# Altium integrated library custom.IntLib: 10 symbols
Pins are listed as number, name and electrical type; pins without a type are passive.

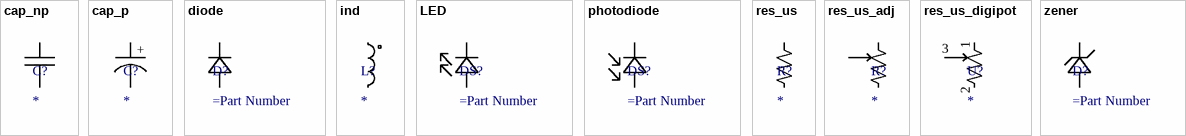
[diagram p0: symbols cap_np to zener]

## cap_np
designator C?
Capacitance: *; Voltage: *; Tolerance: *; Manufacturer Part Number: *; Manufacturer: *
pins: 1, 2

## cap_p
designator C?
Capacitance: *; Voltage: *; Tolerance: *; Manufacturer Part Number: *; Manufacturer: *
pins: 1, 2
text: +

## diode
designator D?
Voltage: *; Manufacturer Part Number: *; Manufacturer: *
pins: 1 A, 2 K

## ind
designator L?
Tolerance: *; Manufacturer Part Number: *; Manufacturer: *; Inductance: *
pins: 1, 2

## LED
designator DS?
Manufacturer Part Number: *; Manufacturer: *
pins: 1 A, 2 K

## photodiode
designator DS?
Manufacturer Part Number: *; Manufacturer: *
pins: 1 A, 2 K

## res_us
designator R?
Tolerance: *; Manufacturer Part Number: *; Manufacturer: *; Resistance: *
pins: 1, 2

## res_us_adj
designator R?
Tolerance: *; Manufacturer Part Number: *; Manufacturer: *; Resistance: *
pins: 1, 2, 3 out

## res_us_digipot
designator U?
Tolerance: *; Manufacturer Part Number: *; Manufacturer: *; Resistance: *
pins: 1, 2, 3 out

## zener
designator D?
Voltage: *; Manufacturer Part Number: *; Manufacturer: *
pins: 1 A, 2 K